# Altium integrated library LQW15DN100M00D.IntLib: 1 symbol
Pins are listed as number, name and electrical type; pins without a type are passive.

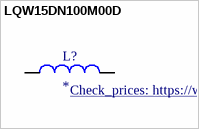
[diagram p0: symbol LQW15DN100M00D]

## LQW15DN100M00D
designator L?
Inductor with Inductance: 10uH Tol. +/-20%, Package: 0402 (1005); MP: LQW15DN100M00D; MF: Murata Electronics North America; Package: 1106 Murata; Purchase-URL: https://pricing.snapeda.com/search/part/LQW15DN100M00D/?ref=eda; Value: *; SnapEDA_Link: https://www.snapeda.com/parts/LQW15DN100M00D/Murata%20Electronics%20North%20America/view-part/3223358/?ref=snap; Availability: Good; Price: None; Check_prices: https://www.snapeda.com/parts/LQW15DN100M00D/Murata%20Electronics%20North%20America/view-part/3223358/?ref=eda
footprint INDC1106X70N
pins: 1, 2